# Altium schematic symbol library SCH - DIODES - TVS - TI TPD4E02B04DQAR.Schlib: 1 symbol
Pins are listed as number, name and electrical type; pins without a type are passive.

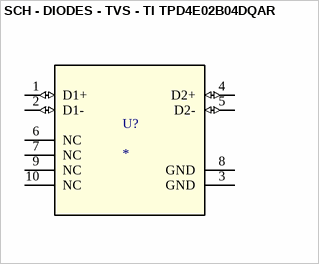
[diagram p0: symbol SCH - DIODES - TVS - TI TPD4E02B04DQAR]

## SCH - DIODES - TVS - TI TPD4E02B04DQAR
designator U?
footprint DQA0010A
pins: 1 D1+ (io), 2 D1- (io), 3 GND (power), 4 D2+ (io), 5 D2- (io), 6 NC, 7 NC, 8 GND (power), 9 NC, 10 NC